# EAGLE library part ACS712 (library Public)
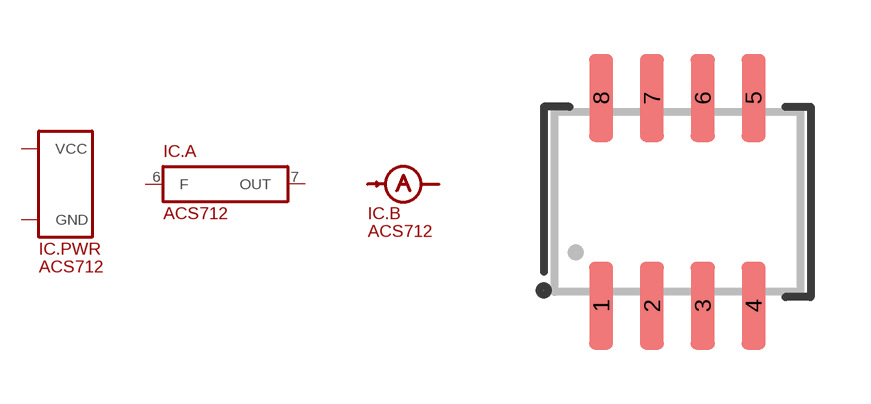
[diagram p14: symbol with the pads of SOP8; footprint SOP8]

Designator prefix IC; gates .PWR=SUPPLY_VCC/GND .A=ACS712 .B=AMPEREMETER

## ACS712  [SOP8]
1  .B:+
2  .B:+
3  .B:-
4  .B:-
5  .PWR:GND
6  .A:F
7  .A:OUT
8  .PWR:VCC

## Footprint SOP8 (pad centres in mm)
smd 0.6 x 2.2: 1 -1.905,-2.6; 2 -0.635,-2.6; 3 0.635,-2.6; 4 1.905,-2.6; 5 1.905,2.6; 6 0.635,2.6; 7 -0.635,2.6; 8 -1.905,2.6